# Altium schematic symbol library CAP - Aluminum - Polymer Capacitors.SchLib: 1 symbol
Pins are listed as number, name and electrical type; pins without a type are passive.

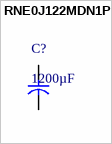
[diagram p0: symbol RNE0J122MDN1PX]

## RNE0J122MDN1PX
designator C?, comment 1200µF
CAP ALUM POLY 1200UF 6.3V T/H; Manufacturer: Nichicon; Manufacturer Part Number: RNE0J122MDN1PX; Type: Polymer; Tolerance: ±20%; ESR (Equivalent Series Resistance): 10 mOhm; Lifetime @ Temp.: 2000 Hrs @ 105°C; Ripple Current: 5.7A; Voltage Rating DC: 6.3 VDC; ESR: 10 mOhms; Leakage Current: 1.512 mA; Dissipation Factor DF: 0.08; Life: 5000 Hour; Supplier 1: Digi-Key; RoHS: RoHS Compliant; Category: Capacitors; Stock 1: 61365; Pricing 1: 1=0.86, 10=0.654, 25=0.5796, 50=0.5434, 100=0.4689, 250=0.42264, 500=0.36226 (USD); Packaging: Cut Tape (CT); Part Status: Active; Capacitance: 1200µF; Voltage Rating: 6.3V; Operating Temperature: -55°C ~ 105°C; Applications: -; Impedance: -; Lead Spacing: 0.197" (5.00mm); Size / Dimension: 0.315" Dia (8.00mm); Height - Seated (Max): 0.354" (9.00mm); Surface Mount Land Size: -; Mounting Type: Through Hole; Package / Case: Radial, Can; ComponentLink1URL: http://nichicon-us.com/english/products/pdfs/e-rne.pdf; ComponentLink1Description: http://nichicon-us.com/english/products/pdfs/e-rne.pdf; Supplier 2: Mouser; Stock 2: 1663; Pricing 2: 1=1.19, 10=0.806, 100=0.530, 500=0.477, 1000=0.328, 2000=0.307, 5000=0.291, 10000=0.281, 25000=0.270 (USD); Diameter: 8 mm; Length: 9 mm; Product: Can; Series: RNE; Termination Style: Radial; Brand: Nichicon; Maximum Operating Temperature: + 105 C; Minimum Operating Temperature: - 55 C; Product Type: Solid Electrolytic Capacitor; Standard Pack Qty: 1000; Tradename: FPCAP; RoHS - Mouser: Y; Minimum Order Quantity: 1; Reeling: True; ComponentLink2URL: http://www.mouser.com/ds/2/293/e-rne-875908.pdf; ComponentLink2Description: http://www.mouser.com/ds/2/293/e-rne-875908.pdf; Supplier Part Number 1: 493-3811-1-ND; Supplier Part Number 2: 647-RNE0J122MDN1PX
footprint CYLN/D080/H090/LS35 (Dia 8mm, Heigh 12.5mm, Lead Space 3mm (4.7uF/400V small))
pins: 1, 2